# EAGLE library part M78SAR (library MINMAX)
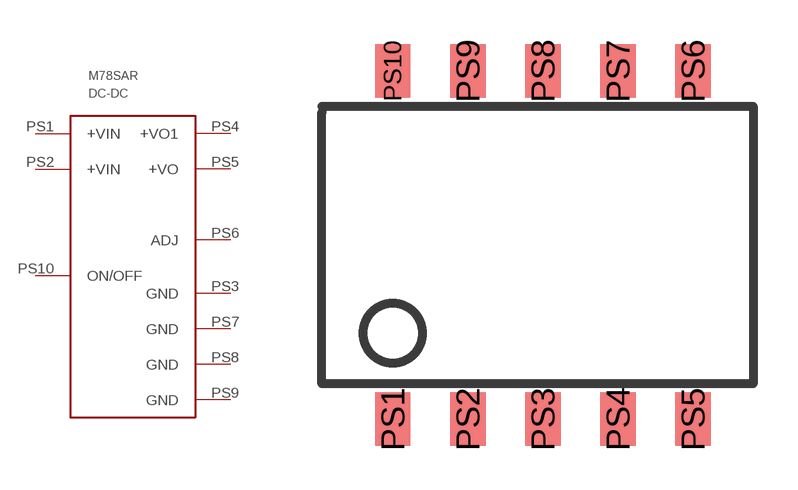
[diagram p0: symbol with the pads of M78SAR; footprint M78SAR]

Designator prefix DC-DC

## M78SAR05-0.5  [M78SAR]
PS1  +VIN
PS2  +VIN
PS3  GND
PS4  +VO1
PS5  +VO
PS6  ADJ
PS7  GND
PS8  GND
PS9  GND
PS10  ON/OFF

## M78SAR033-0.5  [M78SAR]
Pads as for M78SAR

## Footprint M78SAR (pad centres in mm)
smd 1.2 x 1.8: PS1 0,-11.8; PS2 2.54,-11.8; PS3 5.08,-11.8; PS4 7.62,-11.8; PS5 10.16,-11.8; PS6 10.16,0; PS7 7.62,0; PS8 5.08,0; PS9 2.54,0; PS10 0,0